# Altium schematic symbol library Common-Parts-Library.SchLib: 8 symbols
Pins are listed as number, name and electrical type; pins without a type are passive.

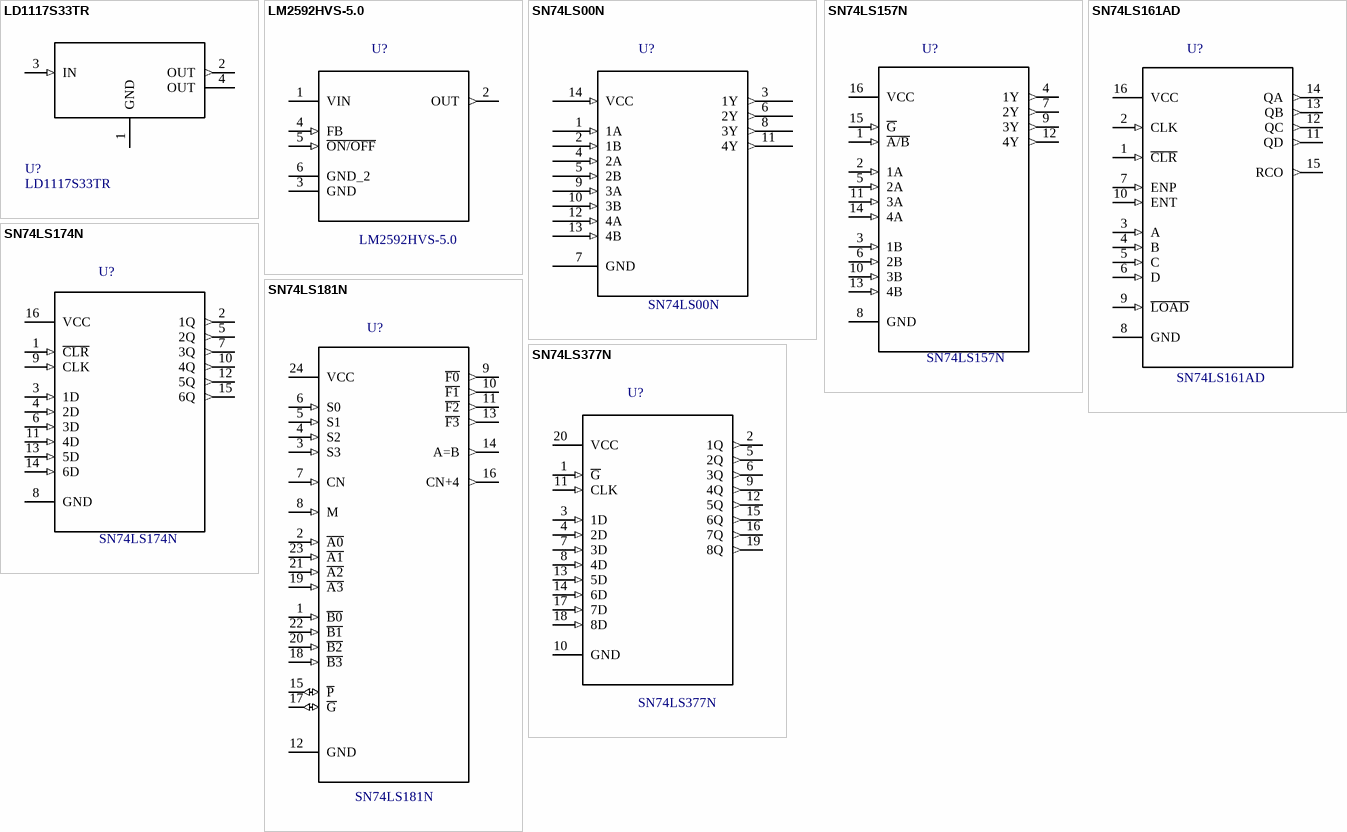
[diagram p0: symbols LD1117S33TR to SN74LS377N]

## LD1117S33TR
designator U?
Value: *
footprint *SOT223
pins: 1 GND, 2 OUT (out), 3 IN (in), 4 OUT

## LM2592HVS-5.0
designator U?
Value: *
footprint *TO170P1435X457-5N
pins: 1 VIN (power), 2 OUT (out), 3 GND, 4 FB (in), 5 ~{ON/OFF} (in), 6 GND_2

## SN74LS00N
designator U?
Value: *
footprint *DIP254P762X508-14
pins: 1 1A (in), 2 1B (in), 3 1Y (out), 4 2A (in), 5 2B (in), 6 2Y (out), 7 GND, 8 3Y (out), 9 3A (in), 10 3B (in), 11 4Y (out), 12 4A (in), 13 4B (in), 14 VCC (in)

## SN74LS157N
designator U?
Value: *
footprint *SN74LS157N_DIP254P762X508-16
pins: 1 ~{A/B} (in), 2 1A (in), 3 1B (in), 4 1Y (out), 5 2A (in), 6 2B (in), 7 2Y (out), 8 GND, 9 3Y (out), 10 3B (in), 11 3A (in), 12 4Y (out), 13 4B (in), 14 4A (in), 15 ~{G} (in), 16 VCC (power)

## SN74LS161AD
designator U?
Value: *
footprint *SOIC127P600X175-16N
pins: 1 ~{CLR} (in), 2 CLK (in), 3 A (in), 4 B (in), 5 C (in), 6 D (in), 7 ENP (in), 8 GND, 9 ~{LOAD} (in), 10 ENT (in), 11 QD (out), 12 QC (out), 13 QB (out), 14 QA (out), 15 RCO (out), 16 VCC (power)

## SN74LS174N
designator U?
Value: *
footprint *DIP254P762X508-16
pins: 1 ~{CLR} (in), 2 1Q (out), 3 1D (in), 4 2D (in), 5 2Q (out), 6 3D (in), 7 3Q (out), 8 GND, 9 CLK (in), 10 4Q (out), 11 4D (in), 12 5Q (out), 13 5D (in), 14 6D (in), 15 6Q (out), 16 VCC (power)

## SN74LS181N
designator U?
Value: *
footprint *DIP254P1080X508-24
pins: 1 ~{B0} (in), 2 ~{A0} (in), 3 S3 (in), 4 S2 (in), 5 S1 (in), 6 S0 (in), 7 CN (in), 8 M (in), 9 ~{F0} (out), 10 ~{F1} (out), 11 ~{F2} (out), 12 GND, 13 ~{F3} (out), 14 A=B (out), 15 ~{P} (io), 16 CN+4 (out), 17 ~{G} (io), 18 ~{B3} (in), 19 ~{A3} (in), 20 ~{B2} (in), 21 ~{A2} (in), 22 ~{B1} (in), 23 ~{A1} (in), 24 VCC (power)

## SN74LS377N
designator U?
Value: *
footprint *DIP254P762X508-20
pins: 1 ~{G} (in), 2 1Q (out), 3 1D (in), 4 2D (in), 5 2Q (out), 6 3Q (out), 7 3D (in), 8 4D (in), 9 4Q (out), 10 GND, 11 CLK (in), 12 5Q (out), 13 5D (in), 14 6D (in), 15 6Q (out), 16 7Q (out), 17 7D (in), 18 8D (in), 19 8Q (out), 20 VCC (power)